# Altium footprint library 1RGB-LED-Board_CR12xx-TESTBOARD.PcbLib: 24 footprints (part 2 of 2)
Each footprint in its own frame and in the unit in brackets; x right, y up, seen from the top. Pads: shape width x height; smd on the part's side, far side on the other; paste and mask are expansions set on the pad; w line width, h text height; cw(c..) or ccw(c..) is an arc to the next point about the centre after c.
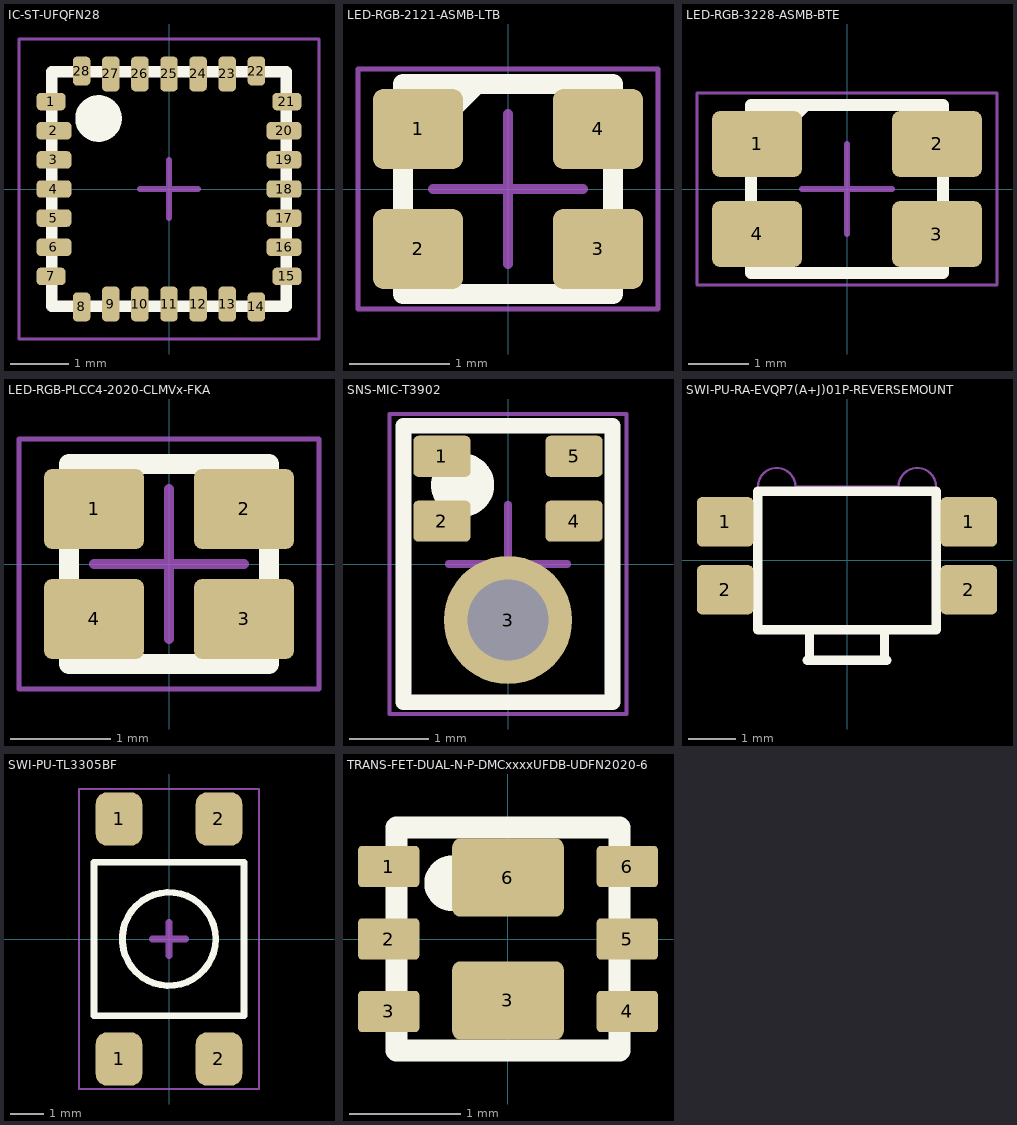
[diagram p1: the footprints below, top view; thin cyan lines are the x and y axes]

## IC-ST-UFQFN28 [mm]
height 0.6
pads (28):
  rrect50% 0.5x0.3 smd: 1(-2.025,1.5) 7(-2.025,-1.5) 15(2.025,-1.5) 21(2.025,1.5)
  rrect50% 0.6x0.3 smd: 2(-1.975,1) 3(-1.975,0.5) 4(-1.975,0) 5(-1.975,-0.5) 6(-1.975,-1) 16(1.975,-1) 17(1.975,-0.5) 18(1.975,0) 19(1.975,0.5) 20(1.975,1)
  rrect50% 0.3x0.5 smd: 8(-1.5,-2.025) 14(1.5,-2.025) 22(1.5,2.025) 28(-1.5,2.025)
  rrect50% 0.3x0.6 smd: 9(-1,-1.975) 10(-0.5,-1.975) 11(0,-1.975) 12(0.5,-1.975) 13(1,-1.975) 23(1,1.975) 24(0.5,1.975) 25(0,1.975) 26(-0.5,1.975) 27(-1,1.975)
Top Overlay:
  circle w0.4: c-1.21,1.21 r0.2
  lines w0.2: -2.01,-2.01 2.01,-2.01 2.01,2.01 -2.01,2.01 -2.01,-2.01
Mechanical 15:
  lines w0.05: -2.575,-2.575 -2.575,2.575 2.575,2.575 2.575,-2.575 -2.575,-2.575
  lines w0.1: -0.5,0 0.5,0 ; 0,-0.5 0,0.5
3D body "IC-ST-UFQFN28.step": height 0.6, standoff 0, extent -2.01,-2.01 2.01,2.01

## LED-RGB-2121-ASMB-LTB [mm]
height 1
pads (4):
  rrect25% 0.9x0.8 smd: 1(-0.9,0.6) 2(-0.9,-0.6) 3(0.9,-0.6) 4(0.9,0.6)
Top Overlay:
  lines w0.2: -1.05,0.31 -0.31,1.05 ; -1.05,-1.05 -1.05,1.05 1.05,1.05 1.05,-1.05 -1.05,-1.05
Mechanical 15:
  lines w0.05: -1.5,-1.2 1.5,-1.2 1.5,1.2 -1.5,1.2 -1.5,-1.2
  lines w0.1: -0.75,0 0.75,0 ; 0,-0.75 0,0.75
3D body "ASMB-LTB.stp": height 1, standoff 0, extent -1.15,-1.05 1.15,1.05

## LED-RGB-3228-ASMB-BTE [mm]
height 2
pads (4):
  rrect25% 1.5x1.1 smd: 1(-1.5,0.75) 2(1.5,0.75) 3(1.5,-0.75) 4(-1.5,-0.75)
Top Overlay:
  lines w0.2: -1.6,0.488 -0.688,1.4 ; -1.6,-1.4 -1.6,1.4 1.6,1.4 1.6,-1.4 -1.6,-1.4
Mechanical 15:
  lines w0.05: -2.5,-1.6 -2.5,1.6 2.5,1.6 2.5,-1.6 -2.5,-1.6
  lines w0.1: -0.75,0 0.75,0 ; 0,-0.75 0,0.75
3D body "ASMB-BTE.stp": height 1.9, standoff 0, extent -1.8,-1.4 1.8,1.4

## LED-RGB-PLCC4-2020-CLMVx-FKA [mm]
height 1
pads (4):
  rrect20% 1x0.8 smd: 1(-0.75,0.55) 2(0.75,0.55) 3(0.75,-0.55) 4(-0.75,-0.55)
Top Overlay:
  lines w0.2: -1,0.3 -0.3,1 ; -1,-1 -1,1 1,1 1,-1 -1,-1
Mechanical 15:
  lines w0.05: -1.5,-1.25 -1.5,1.25 1.5,1.25 1.5,-1.25 -1.5,-1.25
  lines w0.1: -0.75,0 0.75,0 ; 0,-0.75 0,0.75
3D body "CLMVB-FKA.STP": height 0.91, standoff 0.01, extent -0.975,-0.975 0.975,0.975

## SNS-MIC-T3902 [mm] "MEMS Microphone with PDM Interface"
height 1
pads (5):
  rrect25% 0.725x0.522 smd: 1(-0.837,1.364) 5(0.838,1.364)
  rrect25% 0.725x0.52 smd: 2(-0.837,0.542) 4(0.838,0.542)
  round 1.625 / inner round 0 / far side round 0 hole 1.025 unplated paste+3: 3(0,-0.71)
Top Overlay:
  circle w0.4: c-0.575,1 r0.2
  lines w0.2: -1.325,-1.75 1.325,-1.75 1.325,1.75 -1.325,1.75 -1.325,-1.75
Mechanical 15:
  lines w0.05: -1.5,-1.9 -1.5,1.9 1.5,1.9 1.5,-1.9 -1.5,-1.9
  lines w0.1: -0.75,0 0.75,0 ; 0,-0.75 0,0.75
3D body "T3902v1.2.stp": height 0.99, standoff 0.01, extent -1.33,-1.75 1.32,1.75

## SWI-PU-RA-EVQP7(A+J)01P-REVERSEMOUNT [mm]
height 1.35
pads (4):
  rrect20% 1.2x1.05 smd: 1(-2.6,0.825) 1(2.6,0.825) 2(-2.6,-0.625) 2(2.6,-0.625)
Top Overlay:
  lines w0.2: -0.85,-2.125 0.85,-2.125 ; -0.8,-2.125 -0.8,-1.525 ; 0.8,-2.125 0.8,-1.525 ; -1.9,-1.475 1.9,-1.475 1.9,1.475 -1.9,1.475 -1.9,-1.475
Mechanical 1:
  lines w0.05: -1.9,-1.425 -1.9,1.575 cw(c-1.5,1.575) -1.1,1.575 1.1,1.575 cw(c1.5,1.575) 1.9,1.575 1.9,-1.425
3D body "EVQP7-JA-01P.STEP": height 0.16, standoff -1.19, extent -2.35,-2.075 2.35,1.475

## SWI-PU-TL3305BF [mm]
height 5
pads (4):
  rrect50% 1.4x1.6 smd: 1(-1.5,-3.6) 1(-1.5,3.6) 2(1.5,-3.6) 2(1.5,3.6)
Top Overlay:
  circle w0.2: c0,0 r1.4
  lines w0.2: -2.25,-2.3 2.25,-2.3 2.25,2.3 -2.25,2.3 -2.25,-2.3
Mechanical 15:
  lines w0.05: -2.7,-4.5 -2.7,4.5 2.7,4.5 2.7,-4.5 -2.7,-4.5
  lines w0.2: -0.5,0 0.5,0 ; 0,-0.5 0,0.5
3D body "TL3305BFxxxxG.stp": height 5.01, standoff 0.01, extent -2.25,-3.75 2.25,3.75

## TRANS-FET-DUAL-N-P-DMCxxxxUFDB-UDFN2020-6 [mm]
height 0.605
pads (8):
  rrect20% 0.55x0.37 smd: 1(-1.07,0.65) 2(-1.07,0) 3(-1.07,-0.65) 4(1.07,-0.65) 5(1.07,0) 6(1.07,0.65)
  rrect20% 1x0.7 smd: 3(0,-0.55) 6(0,0.55)
Top Overlay:
  circle w0.3: c-0.5,0.5 r0.1
  lines w0.2: -1,-1 1,-1 1,1 -1,1 -1,-1
3D body "SOT1118 DFN2020-6.step": height 0.66, standoff 0.01, extent -1.04,-1.004 1.04,1.004